# Altium footprint library 16-SOP.PcbLib: 1 footprints
Each footprint in its own frame and in the unit in brackets; x right, y up, seen from the top. Pads: shape width x height; smd on the part's side, far side on the other; paste and mask are expansions set on the pad; w line width, h text height; cw(c..) or ccw(c..) is an arc to the next point about the centre after c.
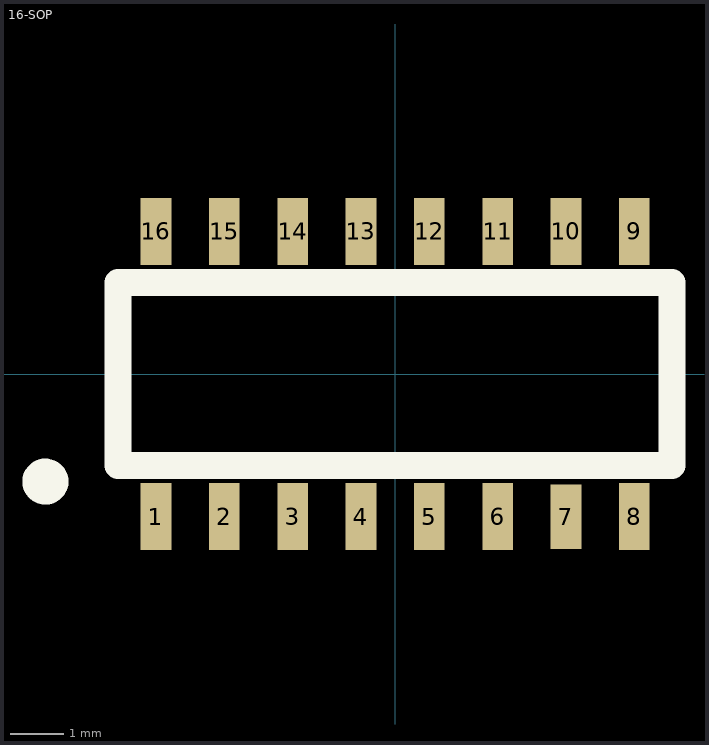
[diagram p0: the footprint, top view; thin cyan lines are the x and y axes]

## 16-SOP [mm]
pads (16):
  rect 0.57x1.25 smd: 1(-4.445,-2.65) 2(-3.175,-2.65) 3(-1.905,-2.65) 4(-0.635,-2.65) 5(0.635,-2.65) 6(1.905,-2.65) 8(4.445,-2.65) 9(4.445,2.65) 10(3.175,2.65) 11(1.905,2.65) 12(0.635,2.65) 13(-0.635,2.65) 14(-1.905,2.65) 15(-3.175,2.65) 16(-4.445,2.65)
  rect 0.57x1.2 smd: 7(3.175,-2.65)
Top Overlay:
  circle w0.5: c-6.5,-2 r0.178
  lines w0.5: -5.15,-1.7 -5.15,1.7 5.15,1.7 5.15,-1.7 -5.15,-1.7
3D body "SO-16_STM.step": height 1.76, standoff 0, extent -5.004,-3.099 5.004,3.099